# Altium footprint library 1.PcbLib: 34 footprints (part 2 of 3)
Each footprint in its own frame and in the unit in brackets; x right, y up, seen from the top. Pads: shape width x height; smd on the part's side, far side on the other; paste and mask are expansions set on the pad; w line width, h text height; cw(c..) or ccw(c..) is an arc to the next point about the centre after c.
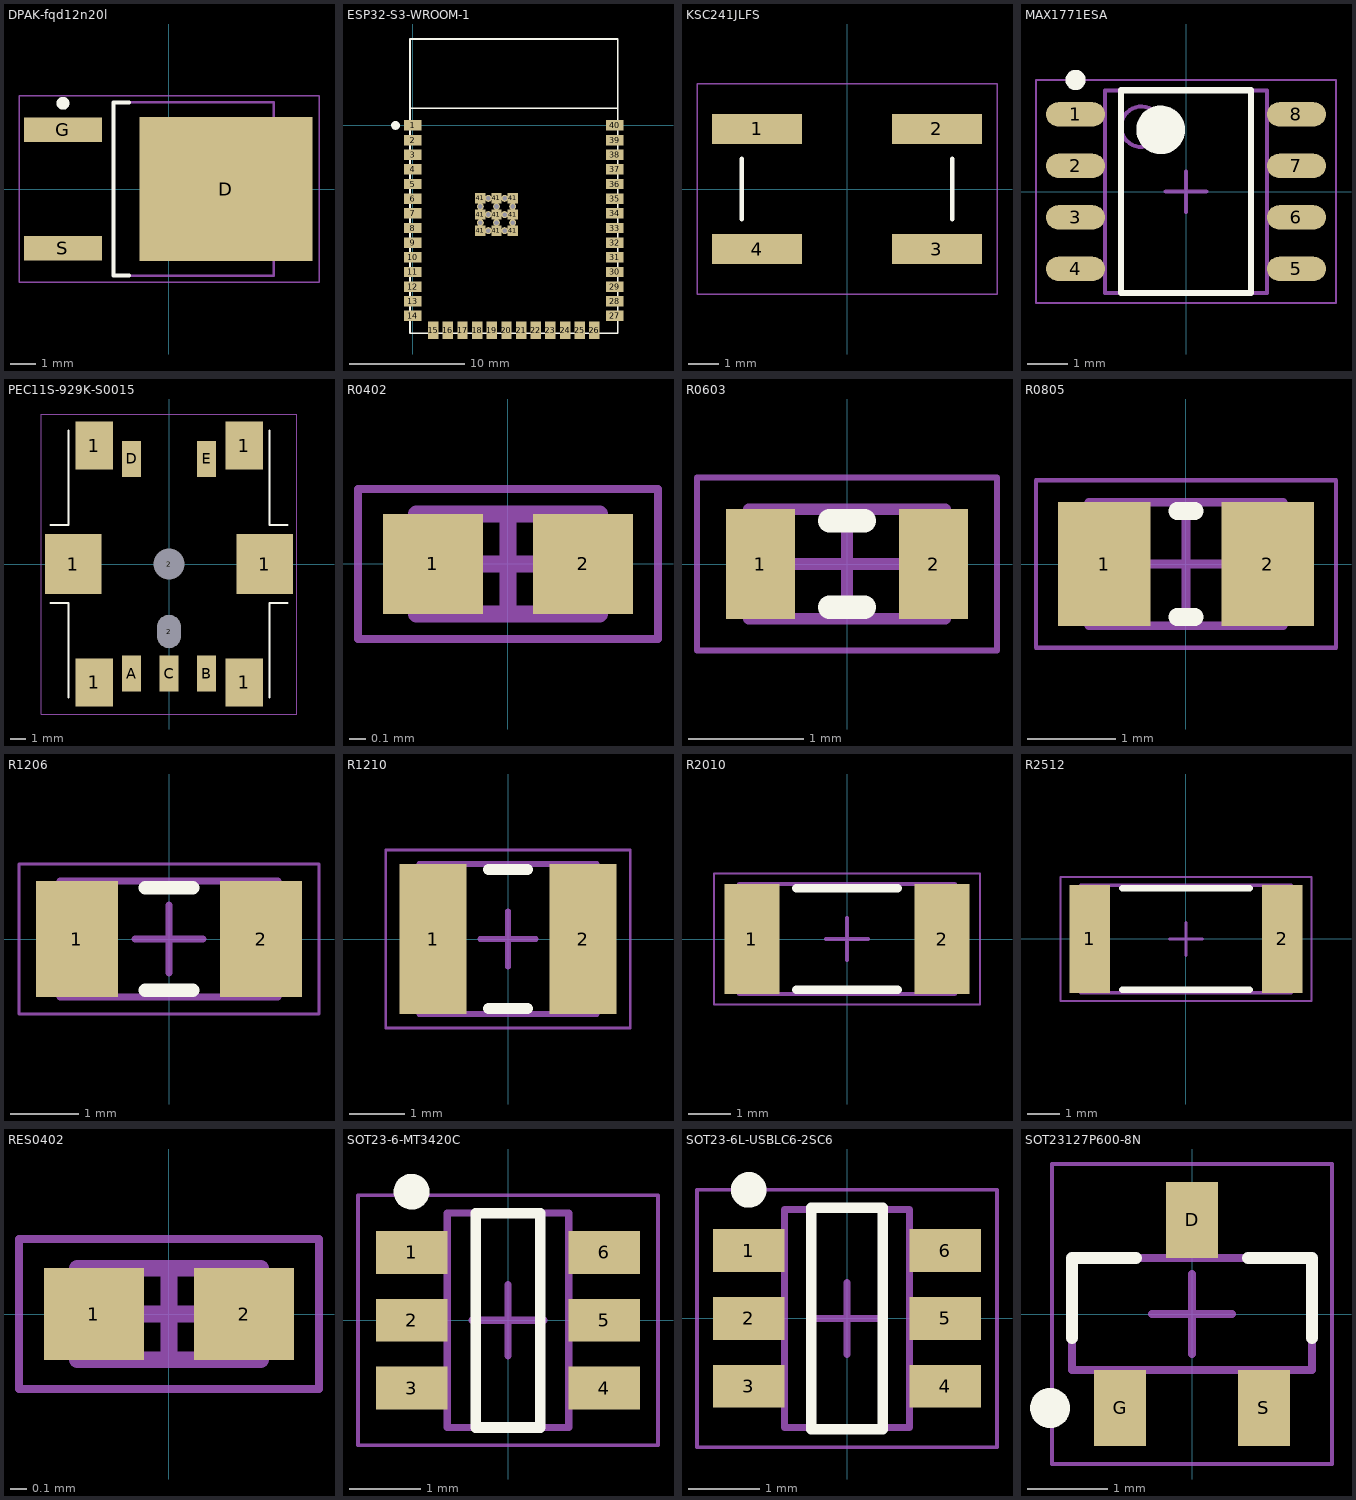
[diagram p1: the footprints below, top view; thin cyan lines are the x and y axes]

## DPAK-fqd12n20l [mm] "D-PAK, 3-Pads, Body 6,20x6,72mm (max), IPC Medium Density"
height 2.39
pads (3):
  rect 6.7x5.55 smd: D(2.2,0)
  rect 3x0.95 smd: G(-4.1,2.29) S(-4.1,-2.29)
Top Overlay:
  circle w0.25: c-4.1,3.315 r0.125
  lines w0.15: -1.55,-3.35 -2.15,-3.35 -2.15,3.35 -1.55,3.35
Mechanical 13:
  lines w0.1: -2.15,-3.35 4.05,-3.35 4.05,3.35 -2.15,3.35 -2.15,-3.35
Mechanical 15:
  lines w0.05: -5.8,-3.6 5.8,-3.6 5.8,3.6 -5.8,3.6 -5.8,-3.6
  lines w0.1: -0.5,0 0.5,0 ; 0,-0.5 0,0.5
3D body "DPAK-fqd12n20l.step": height 2.52, standoff 0, extent -4.455,-3.35 5.445,3.35

## ESP32-S3-WROOM-1 [mm]
pads (61):
  rect 1.5x0.9 smd: 1(0,0) 2(0,-1.27) 3(0,-2.54) 4(0,-3.81) 5(0,-5.08) 6(0,-6.35) 7(0,-7.62) 8(0,-8.89) 9(0,-10.16) 10(0,-11.43) 11(0,-12.7) 12(0,-13.97) 13(0,-15.24) 14(0,-16.51) 27(17.5,-16.51) 28(17.5,-15.24) 29(17.5,-13.97) 30(17.5,-12.7) 31(17.5,-11.43) 32(17.5,-10.16) 33(17.5,-8.89) 34(17.5,-7.62) 35(17.5,-6.35) 36(17.5,-5.08) 37(17.5,-3.81) 38(17.5,-2.54) 39(17.5,-1.27) 40(17.5,0)
  rect 0.9x1.5 smd: 15(1.765,-17.76) 16(3.035,-17.76) 17(4.305,-17.76) 18(5.575,-17.76) 19(6.845,-17.76) 20(8.115,-17.76) 21(9.385,-17.76) 22(10.655,-17.76) 23(11.925,-17.76) 24(13.195,-17.76) 25(14.465,-17.76) 26(15.735,-17.76)
  rect 0.9x0.9 smd: 41(5.85,-9.12) 41(5.85,-7.72) 41(5.85,-6.32) 41(7.25,-9.12) 41(7.25,-7.72) 41(7.25,-6.32) 41(8.65,-9.12) 41(8.65,-7.72) 41(8.65,-6.32)
  round 0.6 hole 0.4: 41(5.85,-8.425) 41(5.85,-7.025) 41(6.55,-9.12) 41(6.55,-7.72) 41(6.55,-6.32) 41(7.25,-8.425) 41(7.25,-7.025) 41(7.95,-9.12) 41(7.95,-7.725) 41(7.95,-6.32) 41(8.65,-8.425) 41(8.65,-7.025)
Top Overlay:
  circle w0.254: c-1.5,0 r0.1
  circle w0.254: c-1.5,0 r0.255
  lines w0.15: -0.25,1.49 17.74,1.49 ; -0.25,-18.01 -0.25,7.49 17.75,7.49 17.75,-18.01 -0.25,-18.01
3D body "ESP32-S3-WROOM.step": height 3.11, standoff -0.05, extent -0.25,-18.01 17.77,7.5

## KSC241JLFS [mm]
pads (4):
  rect 3x1 smd: 1(-3,2) 2(3,2) 3(3,-2) 4(-3,-2)
Top Overlay:
  lines w0.15: -3.5,-1 -3.5,1 ; 3.5,-1 3.5,1
Mechanical 15:
  lines w0.05: -5,-3.5 -5,3.5 5,3.5 5,-3.5 -5,-3.5
3D body "KSC241JLFS.stp": height 3.5, standoff 0, extent -3.4,-3.15 3.4,3.15

## MAX1771ESA [mm] "SOIC, 8-Leads, Body 4,90x3,90mm, Pitch 1,27mm, IPC Medium Density"
height 1.75
pads (8):
  oval 1.45x0.6 smd: 1(-2.725,1.905) 2(-2.725,0.635) 3(-2.725,-0.635) 4(-2.725,-1.905) 5(2.725,-1.905) 6(2.725,-0.635) 7(2.725,0.635) 8(2.725,1.905)
Top Overlay:
  circle w0.25: c-2.725,2.755 r0.125
  circle w0.6: c-0.625,1.525 r0.3
  lines w0.15: -1.6,-2.5 -1.6,2.5 1.6,2.5 1.6,-2.5 -1.6,-2.5
Mechanical 13:
  circle w0.1: c-1.1,1.6 r0.5
  lines w0.1: -2,-2.5 -2,2.5 2,2.5 2,-2.5 -2,-2.5
Mechanical 15:
  lines w0.05: -3.7,-2.75 -3.7,2.75 3.7,2.75 3.7,-2.75 -3.7,-2.75
  lines w0.1: -0.5,0 0.5,0 ; 0,-0.5 0,0.5
3D body "MAX1771ESA.step": height 1.75, standoff 0, extent -3,-2.5 3,2.5

## PEC11S-929K-S0015 [mm]
pads (13):
  rect 3.75x4 smd: 1(-6.375,0) 1(6.375,0)
  rect 2.5x3.2 smd: 1(-5,-7.9) 1(-5,7.9) 1(5,-7.9) 1(5,7.9)
  round 0.6 hole 1.55 slot 2.2 at 90 deg unplated: 2(0,-4.5)
  round 0.6 hole 2.05 unplated: 2(0,0)
  rect 1.3x2.4 smd: A(-2.5,-7.3) B(2.5,-7.3) C(0,-7.3) D(-2.5,7) E(2.5,7)
Top Overlay:
  lines w0.15: -7.9,-2.606 -6.7,-2.606 -6.7,-8.906 ; -7.9,2.606 -6.7,2.606 -6.7,8.906 ; 6.7,-8.906 6.7,-2.606 7.9,-2.606 ; 6.7,8.906 6.7,2.606 7.9,2.606
Mechanical 15:
  lines w0.05: -8.5,-10 8.5,-10 8.5,10 -8.5,10 -8.5,-10
3D body "pec11s-9220k-s0015.stp": height 24.4, standoff -1.4, extent -8.041,-9.678 8.035,9.626

## R0402 [mm] "Resistor"
height 0.6
pads (2):
  rect 0.6x0.6 smd: 1(-0.45,0) 2(0.45,0)
Mechanical 13:
  lines w0.1: -0.55,-0.3 -0.55,0.3 0.55,0.3 0.55,-0.3 -0.55,-0.3
Mechanical 15:
  lines w0.05: -0.9,-0.45 -0.9,0.45 0.9,0.45 0.9,-0.45 -0.9,-0.45
  lines w0.1: -0.3,0 0.3,0 ; 0,-0.3 0,0.3
3D body "R_0402.step": height 0.35, standoff 0, extent -0.5,-0.25 0.5,0.25

## R0603 [mm] "Chip Resistor"
height 0.6
pads (2):
  rect 0.6x0.95 smd: 1(-0.75,0) 2(0.75,0)
Top Overlay:
  lines w0.2: -0.15,-0.375 0.15,-0.375 ; -0.15,0.375 0.15,0.375
Mechanical 13:
  lines w0.1: -0.85,-0.475 -0.85,0.475 0.85,0.475 0.85,-0.475 -0.85,-0.475
Mechanical 15:
  lines w0.05: -1.3,-0.75 -1.3,0.75 1.3,0.75 1.3,-0.75 -1.3,-0.75
  lines w0.1: -0.475,0 0.475,0 ; 0,-0.475 0,0.475
3D body "R_0603.step": height 0.5, standoff 0, extent -0.8,-0.45 0.8,0.45

## R0805 [mm] "Chip Resistor, 2-Leads, Body 2,10x1,30mm, IPC Medium Density"
height 0.65
pads (2):
  rect 1.05x1.4 smd: 1(-0.925,0) 2(0.925,0)
Top Overlay:
  lines w0.2: -0.1,-0.6 0.1,-0.6 ; -0.1,0.6 0.1,0.6
Mechanical 13:
  lines w0.1: -1.1,-0.7 1.1,-0.7 1.1,0.7 -1.1,0.7 -1.1,-0.7
Mechanical 15:
  lines w0.05: -1.7,-0.95 1.7,-0.95 1.7,0.95 -1.7,0.95 -1.7,-0.95
  lines w0.1: -0.5,0 0.5,0 ; 0,-0.5 0,0.5
3D body "R_0805.step": height 0.5, standoff 0, extent -1,-0.625 1,0.625

## R1206 [mm] "Chip Resistor"
height 0.7
pads (2):
  rect 1.2x1.7 smd: 1(-1.35,0) 2(1.35,0)
Top Overlay:
  lines w0.2: -0.35,-0.75 0.35,-0.75 ; -0.35,0.75 0.35,0.75
Mechanical 13:
  lines w0.1: -1.6,-0.85 -1.6,0.85 1.6,0.85 1.6,-0.85 -1.6,-0.85
Mechanical 15:
  lines w0.05: -2.2,-1.1 -2.2,1.1 2.2,1.1 2.2,-1.1 -2.2,-1.1
  lines w0.1: -0.5,0 0.5,0 ; 0,-0.5 0,0.5
3D body "R_1206.step": height 0.6, standoff 0, extent -1.6,-0.8 1.6,0.8

## R1210 [mm] "Chip Resistor"
height 0.7
pads (2):
  rect 1.2x2.7 smd: 1(-1.35,0) 2(1.35,0)
Top Overlay:
  lines w0.2: -0.35,-1.25 0.35,-1.25 ; -0.35,1.25 0.35,1.25
Mechanical 13:
  lines w0.1: -1.6,-1.35 -1.6,1.35 1.6,1.35 1.6,-1.35 -1.6,-1.35
Mechanical 15:
  lines w0.05: -2.2,-1.6 -2.2,1.6 2.2,1.6 2.2,-1.6 -2.2,-1.6
  lines w0.1: -0.5,0 0.5,0 ; 0,-0.5 0,0.5
3D body "R_1210.step": height 0.6, standoff 0, extent -1.6,-1.25 1.6,1.25

## R2010 [mm] "Chip Resistor"
height 0.7
pads (2):
  rect 1.3x2.6 smd: 1(-2.25,0) 2(2.25,0)
Top Overlay:
  lines w0.2: -1.2,-1.2 1.2,-1.2 ; -1.2,1.2 1.2,1.2
Mechanical 13:
  lines w0.1: -2.55,-1.3 -2.55,1.3 2.55,1.3 2.55,-1.3 -2.55,-1.3
Mechanical 15:
  lines w0.05: -3.15,-1.55 -3.15,1.55 3.15,1.55 3.15,-1.55 -3.15,-1.55
  lines w0.1: -0.5,0 0.5,0 ; 0,-0.5 0,0.5
3D body "R_2010.step": height 0.6, standoff 0, extent -2.5,-1.25 2.5,1.25

## R2512 [mm] "Chip Resistor, 2-Leads, Body 6,35x3,20mm, IPC Medium Density"
height 0.7
pads (2):
  rect 1.25x3.3 smd: 1(-2.95,0) 2(2.95,0)
Top Overlay:
  lines w0.2: -1.95,-1.55 1.95,-1.55 ; -1.95,1.55 1.95,1.55
Mechanical 13:
  lines w0.1: -3.225,-1.65 -3.225,1.65 3.225,1.65 3.225,-1.65 -3.225,-1.65
Mechanical 15:
  lines w0.05: -3.85,-1.9 -3.85,1.9 3.85,1.9 3.85,-1.9 -3.85,-1.9
  lines w0.1: -0.5,0 0.5,0 ; 0,-0.5 0,0.5
3D body "R_2512.step": height 0.6, standoff 0, extent -3.2,-1.6 3.2,1.6

## RES0402 [mm] "Chip Resistor, 2-Leads, Body 1,00x0,50mm, IPC Medium Density"
height 0.4
pads (2):
  rect 0.6x0.55 smd: 1(-0.45,0) 2(0.45,0)
Mechanical 13:
  lines w0.1: -0.55,-0.275 0.55,-0.275 0.55,0.275 -0.55,0.275 -0.55,-0.275
Mechanical 15:
  lines w0.05: -0.9,-0.45 0.9,-0.45 0.9,0.45 -0.9,0.45 -0.9,-0.45
  lines w0.1: -0.275,0 0.275,0 ; 0,-0.275 0,0.275
3D body "RES0402.step": height 0.4, standoff 0, extent -0.55,-0.275 0.55,0.275

## SOT23-6-MT3420C [mm] "SOT23, 6-Leads, Body 2,90x2,80mm, Pitch 0,95mm, IPC Medium Density"
height 1.45
pads (6):
  rect 1x0.6 smd: 1(-1.35,0.95) 2(-1.35,0) 3(-1.35,-0.95) 4(1.35,-0.95) 5(1.35,0) 6(1.35,0.95)
Top Overlay:
  circle w0.25: c-1.35,1.8 r0.125
  lines w0.15: -0.45,-1.5 0.45,-1.5 0.45,1.5 -0.45,1.5 -0.45,-1.5
Mechanical 13:
  lines w0.1: -0.85,-1.5 -0.85,1.5 0.85,1.5 0.85,-1.5 -0.85,-1.5
Mechanical 15:
  lines w0.05: -2.1,-1.75 -2.1,1.75 2.1,1.75 2.1,-1.75 -2.1,-1.75
  lines w0.1: -0.5,0 0.5,0 ; 0,-0.5 0,0.5
3D body "SOT23-6-MT3420C.step": height 1.45, standoff 0, extent -1.5,-1.5 1.5,1.5

## SOT23-6L-USBLC6-2SC6 [mm] "SOT23, 6-Leads, Body 2,93x2,80mm, Pitch 0,95mm, IPC Medium Density"
height 1.45
pads (6):
  rect 1x0.6 smd: 1(-1.375,0.95) 2(-1.375,0) 3(-1.375,-0.95) 4(1.375,-0.95) 5(1.375,0) 6(1.375,0.95)
Top Overlay:
  circle w0.25: c-1.375,1.8 r0.125
  lines w0.15: -0.5,-1.55 0.5,-1.55 0.5,1.55 -0.5,1.55 -0.5,-1.55
Mechanical 13:
  lines w0.1: -0.875,-1.525 -0.875,1.525 0.875,1.525 0.875,-1.525 -0.875,-1.525
Mechanical 15:
  lines w0.05: -2.1,-1.8 -2.1,1.8 2.1,1.8 2.1,-1.8 -2.1,-1.8
  lines w0.1: -0.5,0 0.5,0 ; 0,-0.5 0,0.5
3D body "SOT23-6L-USBLC6-2SC6.step": height 1.45, standoff 0, extent -1.5,-1.525 1.5,1.525

## SOT23127P600-8N [mm]
height 1
pads (3):
  rect 0.65x0.95 smd: D(0,1.175) G(-0.9,-1.175) S(0.9,-1.175)
Top Overlay:
  circle w0.25: c-1.775,-1.175 r0.125
  lines w0.15: -1.5,-0.3 -1.5,0.7 -0.7,0.7 ; 0.7,0.7 1.5,0.7 1.5,-0.3
Mechanical 13:
  lines w0.1: -1.5,-0.7 1.5,-0.7 1.5,0.7 -1.5,0.7 -1.5,-0.7
Mechanical 15:
  lines w0.05: -1.75,-1.875 1.75,-1.875 1.75,1.875 -1.75,1.875 -1.75,-1.875
  lines w0.1: -0.5,0 0.5,0 ; 0,-0.5 0,0.5
3D body: height 1, standoff 0.1, extent -1.5,-0.7 1.5,0.7